# EAGLE library part TCC1014A(GIME) (library coco)
TCC1014A - http://www.GIMEchip.com/ TCC1014 & TCC1014A G.I.M.E./A.C.V.C. E.A.G.L.E. Library Part created by J&R - sales@gimechip.com <mailto:sales@gimechip.com?subject=TCC1014 & TCC1014A G.I.M.E./A.C.V.C. E.A.G.L.E. Library Part> 68-Pin PLCC, TCC1014 (VC2645QC) Graphics Interrupt Memory Enhancement Advanced Color Video Chip System Timing, Address Multiplex, Device Select, MMU A central component in the Color Computer 3 is the Advanced Color Video Chip (IC6). This chip provides refresh and address multiplexing for the RAM. It also provides all of the system timing and device selection. ACVC comprises the VDG (Video Display Generator) function which supports High-Resolution mode, in addition to all other modes included in the Color Computer 2. During High-Resolution mode, it generates 40 x 24 or 80 x 24 text screen, and 320 x 192 or 640 x 192 graphics screen. It is also designed to output two different video signals - composite video and analog RGB. ACVC can expand memory space up to 512K bytes. Having a built-in MMU (Memory Management Unit), it can support 2 banks of 256K-byte RAM, each with a 9-line address bus, even though the CPU possesses only 16 address lines. Controlling DRAMs is a fairly complex task. In the Color Computer 3, it is done by the TCC1014 (VC2645QC: ACVC). In addition to address multiplexing, RAS* and CAS* generation, WE0*, WE1* timing control, and refresh generation, the ACVC performs other tasks. It contains the Master Oscillator, the frequency of which is controlled by a 28.63636 MHz (PAL: 28.4750 MHz) crystal (X1). The Master Oscillator is divided by eight to give a 3.579545 MHz color reference signal to the Video Display Generator LOGIC and Composite Video Signal (NTSC version only). This reference signal is then divided by 4 (or 2) again to provide the 0.89 MHz (1.78 MHz) E and Q clock signals for the processor. In the PAL version, the Master Oscillator frequency is slightly shifted down than in the NTSC version for fitting with the PAL encoder circuit. The ACVC (IC6) also controls access to the memory, granting access to the processor during the high time of E (CPU portion) and access to the VDG LOGIC during the low time of E (Video portion). During each access, whether by the CPU or the Video, the ACVC must provide appropriately synchronized RAS* and CAS* signals, as well as the corresponding address signals, to the DRAMs. Note that the DRAM access time must be twice as fast as that required by the CPU alone in order to be able to respond to VDG accesses. In order for the ACVC chip to provide the appropriate addresses to the DRAMs, all 16 CPU address lines are input to the ACVC. It then multiplexes these into low order and high order addresses (Z0 through Z8, refer to MMU) which are sent to the DRAMs along with RAS* and CAS*. Another function of this section is to provide address decoding and device selection for the computer. S0, S1, and S2 are connected to IC9, a 74LS138, in order to provide appropriate signals to enable ROM selection, PIA selection, and various cartridge selection signals. Due to the nature of the ROMs and in order to prevent data bus contention, the ROMs are enabled only during the E portion of a read cycle. The memory area of the CoCo3 is from &00000 through &7FFFF (512K bytes). The Memory Management Unit (MMU) inside of the TCC1014, pins FFA0 through FFAF, selects A13 - A18 (actually A16 - A18). The ACVC is designed to output both composite video signal and analog RGB signal. ACVC also contains analog RGB output and a total of 64 color selections. Memory Management Unit (MMU) XFFA0 - XFFAF, 6 bits The 8-bit CPU in the Color Computer 3 can directly access only 64K bytes of memory with its 16 address lines (A0 - A15). The memory management unit (MMU) extends the address lines to 19 (A0 - A18). This allows the computer to address up to 512K bytes of memory ($00000 - $7FFFF). The MMU consists of a multiplexer and a 16 x 6-bit of RAM array. Each of the 6-bit elements in this RAM array is an MMU task register, and the task registers are used by the computer to determine the proper 8K segment of memory to address. These registers are divided into 2 sets, 8 registers per set. The TR bit of FF91 (task register select bit) determines which set is selected. The relationship between the data in the task register and the generated address is as follows: Bit D5 D4 D3 D2 D1 D0 Corresponding memory address A18 A17 A16 A15 A14 A13 When the CPU needs to access memory outside the standard I/O and control range (XFF00 - XFFFF), CPU address lines A13 - A15 and the TR bit determine the address of the task register which the MMU will access while SELECT is low. When the CPU writes data to the MMU, A0 - A3 determine the address of the task register to be written to when SELECT goes high. The data from the MMU is then used as the upper 6 address lines (A13 - A18) for memory access, according to the following: TR A15 A14 A13 (Address range) MMU location address 0 0 0 0 X0000 - X1FFF FFA0 0 0 0 1 X2000 - X3FFF FFA1 0 0 1 0 X4000 - X5FFF FFA2 0 0 1 1 X6000 - X7FFF FFA3 0 1 0 0 X8000 - X9FFF FFA4 0 1 0 1 XA000 - XBFFF FFA5 0 1 1 0 XC000 - XDFFF FFA6 0 1 1 1 XE000 - XFFFF FFA7 1 0 0 0 X0000 - X1FFF FFA8 1 0 0 1 X2000 - X3FFF FFA9 1 0 1 0 X4000 - X5FFF FFAA 1 0 1 1 X6000 - X7FFF FFAB 1 1 0 0 X8000 - X9FFF FFAC 1 1 0 1 XA000 - XBFFF FFAD 1 1 1 0 XC000 - XDFFF FFAE 1 1 1 1 XE000 - XFFFF FFAF It is important to note that, in order for the MMU to function, the CoCo bit of FF90 must be cleared, and the M/P bit of FF90 must be set. Prior to doing this, the desired addressing information for each segment must be loaded into the designated set of task registers.
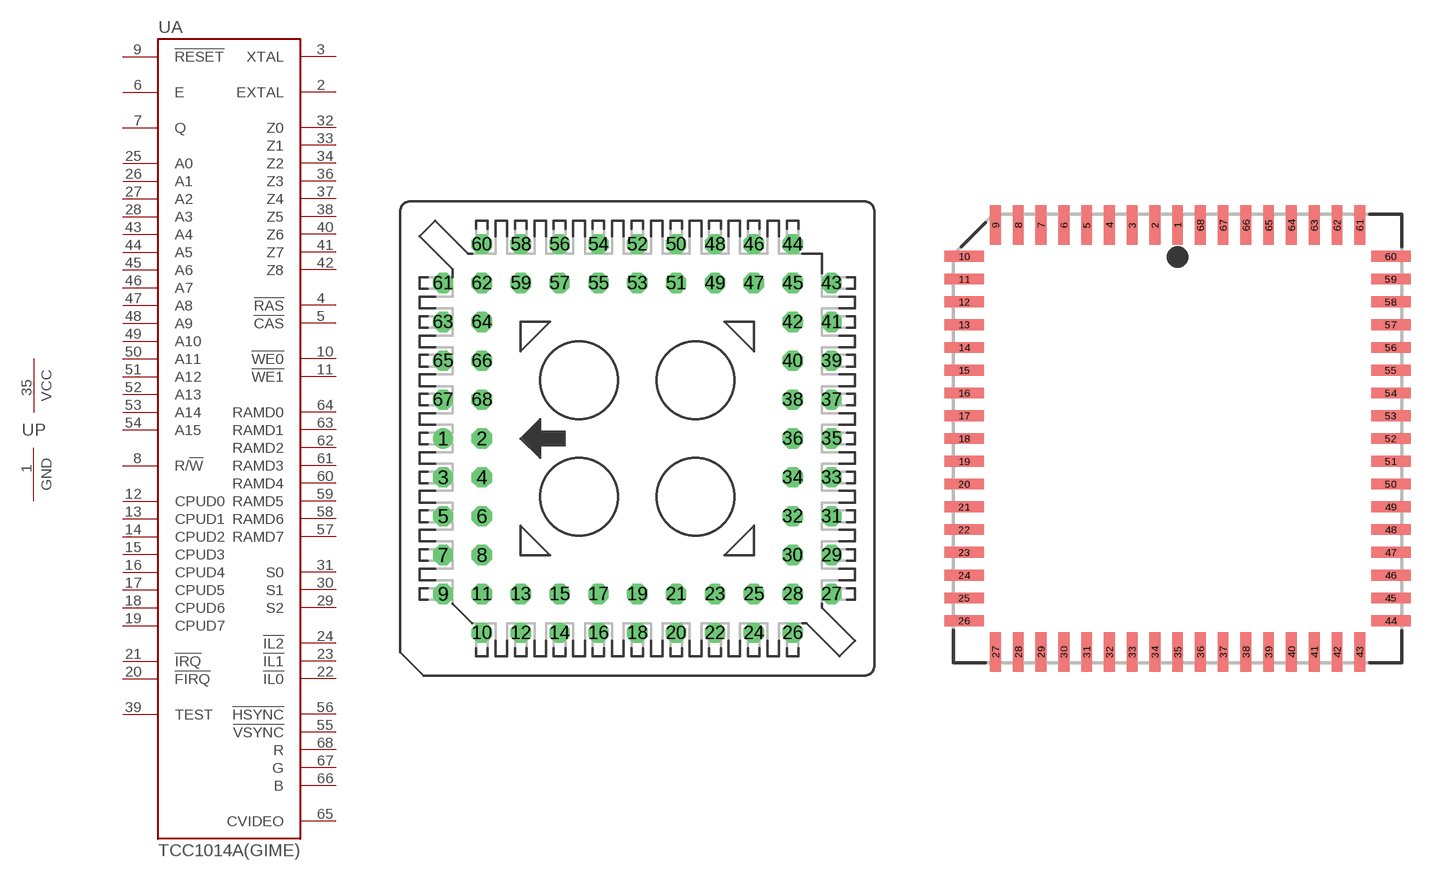
[diagram p1: symbol with the pads of PLCC68-TH; footprints PLCC68-TH, PLCC68]

Designator prefix U; gates A=TCC1014A P=PWR-GND

## TCC1014A(GIME)S  [PLCC68-TH]
1  P:GND  pwr
2  A:EXTAL  pas
3  A:XTAL  pas
4  A:!RAS  out
5  A:!CAS  out
6  A:E
7  A:Q
8  A:R/!W  in
9  A:!RESET
10  A:!WE0  out
11  A:!WE1  out
12  A:CPUD0
13  A:CPUD1
14  A:CPUD2
15  A:CPUD3
16  A:CPUD4
17  A:CPUD5
18  A:CPUD6
19  A:CPUD7
20  A:!FIRQ  oc
21  A:!IRQ  oc
22  A:!IL0  in
23  A:!IL1  in
24  A:!IL2  in
25  A:A0  out
26  A:A1  out
27  A:A2  out
28  A:A3  out
29  A:S2  out
30  A:S1  out
31  A:S0  out
32  A:Z0  out
33  A:Z1  out
34  A:Z2  out
35  P:VCC  pwr
36  A:Z3  out
37  A:Z4  out
38  A:Z5  out
39  A:TEST  pas
40  A:Z6  out
41  A:Z7  out
42  A:Z8  out
43  A:A4  out
44  A:A5  out
45  A:A6  out
46  A:A7  out
47  A:A8  out
48  A:A9  out
49  A:A10  out
50  A:A11  out
51  A:A12  out
52  A:A13  out
53  A:A14  out
54  A:A15  out
55  A:!VSYNC  out
56  A:!HSYNC  out
57  A:RAMD7
58  A:RAMD6
59  A:RAMD5
60  A:RAMD4
61  A:RAMD3
62  A:RAMD2
63  A:RAMD1
64  A:RAMD0
65  A:CVIDEO  out
66  A:B  out
67  A:G  out
68  A:R  out

## TCC1014A(GIME)  [PLCC68]
Pads as for PLCC68-TH

## Footprint PLCC68-TH (pad centres in mm)
drill 0.813: 1 -12.7,0
drill 0.813 octagon: 2 -10.16,0; 3 -12.7,-2.54; 4 -10.16,-2.54; 5 -12.7,-5.08; 6 -10.16,-5.08; 7 -12.7,-7.62; 8 -10.16,-7.62; 9 -12.7,-10.16; 10 -10.16,-12.7; 11 -10.16,-10.16; 12 -7.62,-12.7; 13 -7.62,-10.16; 14 -5.08,-12.7; 15 -5.08,-10.16; 16 -2.54,-12.7; 17 -2.54,-10.16; 18 0,-12.7; 19 0,-10.16; 20 2.54,-12.7; 21 2.54,-10.16; 22 5.08,-12.7; 23 5.08,-10.16; 24 7.62,-12.7; 25 7.62,-10.16; 26 10.16,-12.7; 27 12.7,-10.16; 28 10.16,-10.16; 29 12.7,-7.62; 30 10.16,-7.62; 31 12.7,-5.08; 32 10.16,-5.08; 33 12.7,-2.54; 34 10.16,-2.54; 35 12.7,0; 36 10.16,0; 37 12.7,2.54; 38 10.16,2.54; 39 12.7,5.08; 40 10.16,5.08; 41 12.7,7.62; 42 10.16,7.62; 43 12.7,10.16; 44 10.16,12.7; 45 10.16,10.16; 46 7.62,12.7; 47 7.62,10.16; 48 5.08,12.7; 49 5.08,10.16; 50 2.54,12.7; 51 2.54,10.16; 52 0,12.7; 53 0,10.16; 54 -2.54,12.7; 55 -2.54,10.16; 56 -5.08,12.7; 57 -5.08,10.16; 58 -7.62,12.7; 59 -7.62,10.16; 60 -10.16,12.7; 61 -12.7,10.16; 62 -10.16,10.16; 63 -12.7,7.62; 64 -10.16,7.62; 65 -12.7,5.08; 66 -10.16,5.08; 67 -12.7,2.54; 68 -10.16,2.54

## Footprint PLCC68 (pad centres in mm)
Plastic J-Lead Chip Carrier
smd 0.6 x 2.2: 1 0,11.9; 2 -1.27,11.9; 3 -2.54,11.9; 4 -3.81,11.9; 5 -5.08,11.9; 6 -6.35,11.9; 7 -7.62,11.9; 8 -8.89,11.9; 9 -10.16,11.9; 27 -10.16,-11.9; 28 -8.89,-11.9; 29 -7.62,-11.9; 30 -6.35,-11.9; 31 -5.08,-11.9; 32 -3.81,-11.9; 33 -2.54,-11.9; 34 -1.27,-11.9; 35 0,-11.9; 36 1.27,-11.9; 37 2.54,-11.9; 38 3.81,-11.9; 39 5.08,-11.9; 40 6.35,-11.9; 41 7.62,-11.9; 42 8.89,-11.9; 43 10.16,-11.9; 61 10.16,11.9; 62 8.89,11.9; 63 7.62,11.9; 64 6.35,11.9; 65 5.08,11.9; 66 3.81,11.9; 67 2.54,11.9; 68 1.27,11.9
smd 2.2 x 0.6: 10 -11.9,10.16; 11 -11.9,8.89; 12 -11.9,7.62; 13 -11.9,6.35; 14 -11.9,5.08; 15 -11.9,3.81; 16 -11.9,2.54; 17 -11.9,1.27; 18 -11.9,0; 19 -11.9,-1.27; 20 -11.9,-2.54; 21 -11.9,-3.81; 22 -11.9,-5.08; 23 -11.9,-6.35; 24 -11.9,-7.62; 25 -11.9,-8.89; 26 -11.9,-10.16; 44 11.9,-10.16; 45 11.9,-8.89; 46 11.9,-7.62; 47 11.9,-6.35; 48 11.9,-5.08; 49 11.9,-3.81; 50 11.9,-2.54; 51 11.9,-1.27; 52 11.9,0; 53 11.9,1.27; 54 11.9,2.54; 55 11.9,3.81; 56 11.9,5.08; 57 11.9,6.35; 58 11.9,7.62; 59 11.9,8.89; 60 11.9,10.16